# Altium schematic symbol library ECS-160-20-5P.SchLib: 1 symbol
Pins are listed as number, name and electrical type; pins without a type are passive.

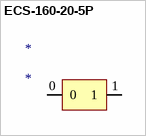
[diagram p0: symbol ECS-160-20-5P]

## ECS-160-20-5P
designator *
footprint CSM-7 (Quartz Crystal, SM; 2 Leads; Body 11.4 x 4.8 x 5 mm (LxWxH))
pins: 0, 1